# EAGLE library part DAC80004IPW (library laserscanner)
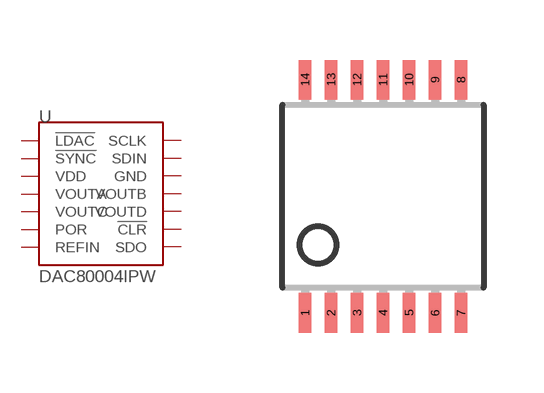
[diagram p1: symbol with the pads of TSSOP14; footprint TSSOP14]

Designator prefix -

## DAC80004IPW  [TSSOP14]
1  !LDAC
2  !SYNC
3  VDD
4  VOUTA
5  VOUTC
6  POR
7  REFIN
8  SDO
9  !CLR
10  VOUTD
11  VOUTB
12  GND
13  SDIN
14  SCLK

## Footprint TSSOP14 (pad centres in mm)
Thin Shrink Small Outline Plastic 14
smd 0.305 x 0.991: 1 -1.95,-2.918; 2 -1.3,-2.918; 3 -0.65,-2.918; 4 0,-2.918; 5 0.65,-2.918; 6 1.3,-2.918; 7 1.95,-2.918; 8 1.95,2.918; 9 1.3,2.918; 10 0.65,2.918; 11 0,2.918; 12 -0.65,2.918; 13 -1.3,2.918; 14 -1.95,2.918